# Altium schematic symbol library mamsense_button.SchLib: 46 symbols
Pins are listed as number, name and electrical type; pins without a type are passive.

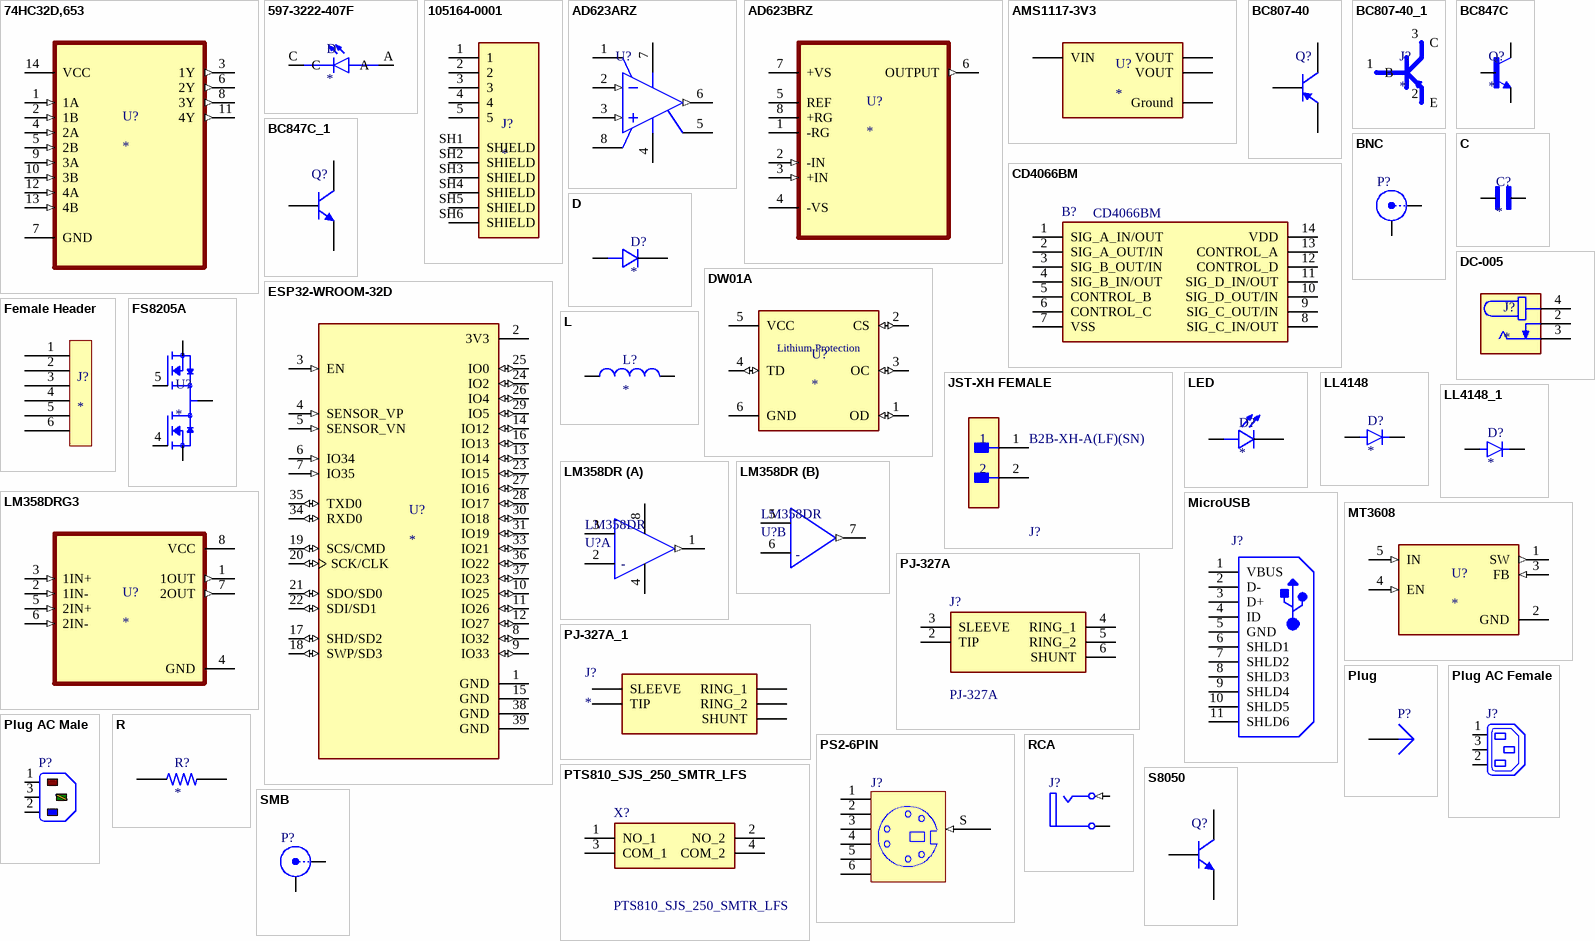
[diagram p0: symbols 74HC32D,653 to SMB]

## 74HC32D,653
designator U?
OR Gate IC 4 Channel 14-SO; MP: 74HC32D,653; MF: Nexperia USA; Price: None; SnapEDA_Link: https://www.snapeda.com/parts/74HC32D,653/Nexperia%20USA%20Inc./view-part/33189/?ref=snap; Package: SOIC-14 NXP Semiconductors; DigiKey-Purchase-URL: https://snapeda.com/shop?store=DigiKey&id=33189; Value: *; Mouser-Purchase-URL: https://snapeda.com/shop?store=Mouser&id=33189; Availability: Good
footprint SOIC127P600X175-14N
pins: 1 1A (in), 2 1B (in), 3 1Y (out), 4 2A (in), 5 2B (in), 6 2Y (out), 7 GND, 8 3Y (out), 9 3A (in), 10 3B (in), 11 4Y (out), 12 4A (in), 13 4B (in), 14 VCC (power)

## 597-3222-407F
designator D
Yellow LED Indication - Discrete 1.9V 0805 _2012 Metric_; MP: 597-3222-407F; MF: Dialight; Package: 0805 Dialight; Availability: Unavailable; SnapEDA_Link: https://www.snapeda.com/parts/597-3222-407F/Dialight/view-part/345662/?ref=snap; Price: None; Value: *
footprint LEDC2012X70N
pins: A, C

## 105164-0001
designator J?
Molex Micro B USB
footprint 105164-0001 (Molex Micro B USB)
pins: 1, 2, 3, 4, 5, SH1 SHIELD, SH2 SHIELD, SH3 SHIELD, SH4 SHIELD, SH5 SHIELD, SH6 SHIELD

## AD623ARZ
designator U?
Manufacturer: Analog Devices; EDA / CAD Models: DownloadfromAcceleratedDesigns; PCN Design/Specification: AD623PolymideThickness02/Oct/2013AD623PolymideThickness15/Oct/2013; Output Type: Rail-to-Rail; -3db Bandwidth: 800kHz; Voltage - Supply, Single/Dual (±): 2.7V~12V,±2.5V~6V; Current - Input Bias: 17nA; Amplifier Type: Instrumentation; Voltage - Input Offset: 25µV; Slew Rate: 0.3V/µs; Current - Supply: 375µA; Mfg Application Notes: Electrocardiogram(ECG)Solutions; Number of Circuits: 1; Product Training Modules: InstrumentationAmplifiersPerformanceCommonPhotodiodeOp-AmpCircuitProblemsandSolutionsIndirectCurrentFeedbackInstrumentationAmplifierApplicationsGuide; Manufacturer URL: http://www.analog.com/; Packaging: Tube; Mounting Type: SurfaceMount; Gain Bandwidth Product: -; Datasheet URL: https://datasheet.ciiva.com/20167/82-1224-20167284.pdf; Current - Output / Channel: -; Standard Package: 98; Supplier Device Package: 8-SOIC; Datasheet Version: Rev. D, 07/2008; Family: Linear-Amplifiers-Instrumentation,OPAmps,BufferAmps; Online Catalog: Instrumentation; Operating Temperature: -40degC~85degC; Category: IntegratedCircuits(ICs); Package / Case: 8-SOIC(0.154",3.90mmWidth); Series: -
footprint SOIC-8
pins: 1 -RG, 2 -IN (in), 3 +IN (in), 4 -VS (power), 5 REF (power), 6 OUTPUT (out), 7 +VS (power), 8 +RG

## AD623BRZ
designator U?
Instrumentation Amplifier 1 Circuit Rail-to-Rail 8-SOIC; MF: Analog Devices; MP: AD623BRZ; Package: SOIC-8 Analog Devices; Check_prices: https://www.snapeda.com/parts/AD623BRZ/Analog%20Devices%20Inc./view-part/9793/?ref=eda; Availability: Good; Value: *; Purchase-URL: https://pricing.snapeda.com/search/part/AD623BRZ/?ref=eda; Price: None; SnapEDA_Link: https://www.snapeda.com/parts/AD623BRZ/Analog%20Devices%20Inc./view-part/9793/?ref=snap
footprint SOIC127P599X175-8N
pins: 1 -RG, 2 -IN (in), 3 +IN (in), 4 -VS (power), 5 REF, 6 OUTPUT (out), 7 +VS (power), 8 +RG

## AMS1117-3V3
designator U?
footprint SOT223
pins: 1 Ground (power), 2 VOUT, 3 VIN (power), 4 VOUT

## BC807-40
designator Q?
Manufacturer: On Semiconductor; PartNumber: BC807-40LT1G; fT Min (MHz): 100; IC Continuous (A): -0.5; Packing: Tape and Reel; Polarity: PNP; Mounting Technology: Surface Mount; ComponentLink3URL: http://www.onsemi.cn/pub_link/Collateral/318-08.PDF; DatasheetVersion: Rev. 10; RoHS: TRUE; ComponentLink1URL: http://www.onsemi.com/; ComponentLink2URL: http://www.onsemi.com/pub_link/Collateral/BC807-16LT1-D.PDF; ComponentLink1Description: Manufacturer URL; ComponentLink3Description: Package Specification; PackageVersion: Rev. AP, 11/2009; PackageReference: SOT-23-3-318-08; PackageDescription: 3-Pin Small Outline Transistor, Body 2.92 x 1.3 mm, Pitch 0.95 mm; ComponentLink2Description: Datasheet
footprint SOT-23-3
pins: 1 B, 2 E, 3 C

## BC807-40_1
designator J?
Bipolar (BJT) Transistor PNP 45 V 800 mA 100MHz 310 mW Surface Mount SOT-23-3 (TO-236); MF: Diotec Semiconductor; MP: BC807-40; Value: *; Availability: In Stock; Price: None; Purchase-URL: https://pricing.snapeda.com/search/part/BC807-40/?ref=eda; Check_prices: https://www.snapeda.com/parts/BC807-40/Diotec/view-part/?ref=eda; SnapEDA_Link: https://www.snapeda.com/parts/BC807-40/Diotec/view-part/?ref=snap; Package: SOT-23-3 Diotec
footprint SOT23-3
pins: 1 B (io), 2 E (io), 3 C (io)

## BC847C
designator Q?
Bipolar (BJT) Transistor NPN 45 V 100 mA 300MHz 250 mW Surface Mount SOT-23-3 (TO-236); MF: Diotec Semiconductor; MP: BC847C; Price: None; SnapEDA_Link: https://www.snapeda.com/parts/BC847C/Diotec/view-part/?ref=snap; Purchase-URL: https://pricing.snapeda.com/search/part/BC847C/?ref=eda; Availability: In Stock; Package: SOT-23-3 Diotec; Check_prices: https://www.snapeda.com/parts/BC847C/Diotec/view-part/?ref=eda; Value: *
footprint TRANS_BC847C
pins: 1 B, 2 E, 3 C

## BC847C_1
designator Q?
PartNumber: BC847C; Manufacturer: Infineon; VCEO (max): 45Â V; VEBO (max): 6Â V; fT (typ): 250Â MHz; VCBO (max): 50Â V; ICM (max): 200Â mA; Green: TRUE; IC (max): 100Â mA; Polarity: NPN; Ptot (max): 330Â mW; ICBO (max): 15Â nA; Packing: Reel; ComponentLink3URL: http://www.infineon.com/dgdl/SOT23-Package_Overview.pdf?folderId=db3a30431936bc4b0119532290053c66&fileId=db3a30431936bc4b0119533468123c85; ComponentLink3Description: Package Specification; Mounting Technology: Surface Mount; PackageDescription: 3-Pin Small Outline Transistor Package, 1.3 x 2.9 mm Body, 0.95 mm Pitch; PackageReference: SOT23; ComponentLink2URL: http://www.infineon.com/dgdl/bc847series_bc848series_bc849series_bc850series.pdf?folderId=db3a304314dca389011541d30fa21656&fileId=db3a304314dca389011541d4630a1657; ComponentLink2Description: Datasheet; ComponentLink1Description: Manufacturer URL; ComponentLink1URL: http://www.infineon.com/; IBM (max): 200Â mA; PackageVersion: Apr-08
footprint SOT-23-3
pins: 1 B, 2 E, 3 C

## BNC
designator P?
BNC Elbow Connector; LatestRevisionDate: 17-Jul-2002; LatestRevisionNote: Re-released for DXP Platform.; Publisher: Altium Limited
footprint BNC_RA CON (Connector; BNC Elbow)
signal-integrity model Connector
pins: 1 X, 2 Y

## C
designator C?
footprint C0805
pins: 1, 2

## CD4066BM
designator B?
CD4066BMG4, Analogue Switch Quad SPST, 5, 9, 12, 15V, 14-Pin, SOIC; Manufacturer_Name: Texas Instruments; Geometry.Height: 1.75mm; Mouser Part Number: 595-CD4066BM; Mouser Price/Stock: https://www.mouser.co.uk/ProductDetail/Texas-Instruments/CD4066BM?qs=mTHRaKC2c7Pmip7uYTVQUg%3D%3D; Manufacturer_Part_Number: CD4066BM; Datasheet Link: http://www.ti.com/lit/ds/symlink/cd4066b.pdf
footprint SOIC127P600X175-14N
pins: 1 SIG_A_IN/OUT, 2 SIG_A_OUT/IN, 3 SIG_B_OUT/IN, 4 SIG_B_IN/OUT, 5 CONTROL_B, 6 CONTROL_C, 7 VSS, 8 SIG_C_IN/OUT, 9 SIG_C_OUT/IN, 10 SIG_D_OUT/IN, 11 SIG_D_IN/OUT, 12 CONTROL_D, 13 CONTROL_A, 14 VDD

## D
designator D?
footprint SOD-323
footprint DO-214AB
pins: A, C

## DC-005
designator J?
DC Jack; MP: DC-005; Availability: Unavailable; Value: *; Package: None; Price: None
footprint NINIGI_DC-005
pins: 2 4, 3 5, 4 2

## DW01A
designator U?
footprint SOT-23-6
pins: 1 OD (io), 2 CS (io), 3 OC (io), 4 TD (io), 5 VCC (power), 6 GND (power)
text: Lithium Protection

## ESP32-WROOM-32D
designator U?
footprint ESP32-WROOM-32D
pins: 1 GND (power), 2 3V3 (power), 3 EN (in), 4 SENSOR_VP (in), 5 SENSOR_VN (in), 6 IO34 (in), 7 IO35 (in), 8 IO32 (io), 9 IO33 (io), 10 IO25 (io), 11 IO26 (io), 12 IO27 (io), 13 IO14 (io), 14 IO12 (io), 15 GND (power), 16 IO13 (io), 17 SHD/SD2 (io), 18 SWP/SD3 (io), 19 SCS/CMD (io), 20 SCK/CLK (io), 21 SDO/SD0 (io), 22 SDI/SD1 (io), 23 IO15 (io), 24 IO2 (io), 25 IO0 (io), 26 IO4 (io), 27 IO16 (io), 28 IO17 (io), 29 IO5 (io), 30 IO18 (io), 31 IO19 (io), 33 IO21 (io), 34 RXD0 (io), 35 TXD0 (io), 36 IO22 (io), 37 IO23 (io), 38 GND (power), 39 GND (power)

## Female Header
designator J?
footprint Female Header
pins: 1, 2, 3, 4, 5, 6

## FS8205A
designator U?
footprint TSSOP-8
pins: 1 D12, 2 S1, 3 S1, 4 G1, 5 G2, 6 S2, 7 S2, 8 D12

## JST-XH FEMALE
designator J?, comment B2B-XH-A(LF)(SN)
CONN HEADER VERT 2POS 2.5MM; Current Rating: 3A; Voltage Rating: 250V; Number of Contacts: 2; Contact Resistance: 20mR; Wire/Cable Gauge: 22AWG; Insulation Resistance: 1GR; Connector Type: Male Pin; Packaging: Bulk; Contact Material: Brass; Lead Free: Lead Free; Orientation: Straight; Contact Plating: Tin; Max Current Rating: 3A; Termination: Solder; Fastening Type: Detent; Depth: 5.75mm; Housing Material: Polyamide; REACH SVHC: No SVHC; Series: XH; Voltage Rating (AC): 250V; Number of Positions: 2; Color: Natural; Contact Type: Male Pin; Max Voltage Rating (DC): 250V; Pitch: 2.5mm; Lead Pitch: 2.5mm; Mount: Through Hole; Max Operating Temperature: 85°C; Length: 7.4mm; Max Voltage Rating (AC): 250V; Min Operating Temperature: -25°C; Number of Rows: 1; Housing Color: White
footprint JST-XH 2 Pin
pins: 1, 2

## L
designator L?
footprint RH1207
pins: 1, 2

## LED
designator D?
footprint LED0603
pins: A, C

## LL4148
designator D?
Diode Small Signal Switching 100V 0.15A Automotive 2-Pin Mini-MELF T/R; MF: Diotec Semiconductor; MP: LL4148; Value: *; SnapEDA_Link: https://www.snapeda.com/parts/LL4148/Diotec/view-part/?ref=snap; Purchase-URL: https://pricing.snapeda.com/search/part/LL4148/?ref=eda; Availability: In Stock; Price: None; Package: MINIMELF-2 Diotec; Check_prices: https://www.snapeda.com/parts/LL4148/Diotec/view-part/?ref=eda
footprint DIO_LL4148
pins: A, C

## LL4148_1
designator D?
Diode Small Signal Switching 100V 0.15A Automotive 2-Pin Mini-MELF T/R; MF: Diotec Semiconductor; MP: LL4148; Value: *; SnapEDA_Link: https://www.snapeda.com/parts/LL4148/Diotec/view-part/?ref=snap; Purchase-URL: https://pricing.snapeda.com/search/part/LL4148/?ref=eda; Availability: In Stock; Price: None; Package: MINIMELF-2 Diotec; Check_prices: https://www.snapeda.com/parts/LL4148/Diotec/view-part/?ref=eda
footprint DIO_LL4148
pins: A, C

## LM358DR
designator U?
Output Current: 30mA; Min Dual Supply Voltage: 1.5V; Input Offset Voltage (Vos): 7mV; Power Supply Rejection Ratio (PSRR): 65dB; Unity Gain Bandwidth Product: 700kHz; Number of Channels: 2; Min Supply Voltage: 3V; Max Dual Supply Voltage: 16V; Dual Supply Voltage: 9V; Max Supply Voltage: 32V; Nominal Supply Current: 1.2mA; Slew Rate: 0.3V/µs; Input Bias Current: 250nA; Voltage Gain: 100dB; Operating Supply Current: 1mA; REACH SVHC: No SVHC; Package Quantity: 2500; Width: 3.91mm; Max Operating Temperature: 70°C; Min Operating Temperature: 0°C; Mount: Surface Mount; Length: 4.9mm; Radiation Hardening: No; Case/Package: SOIC; Lead Free: Lead Free; Number of Elements: 2; Packaging: Tape and Reel; Output Current per Channel: 30mA; Number of Circuits: 2; Bandwidth: 700kHz; Operating Supply Voltage: 16V; Gain Bandwidth Product: 700kHz; Number of Pins: 8; Number of Amplifiers: 2; Height: 1.58mm; Common Mode Rejection Ratio: 65dB; Contact Plating: Gold
footprint SOIC-8
part A pins: 1 1OUT (out), 2 IN1- (hiz), 3 IN1+ (hiz), 4 V- (power), 8 V+ (power)
part B pins: 5 IN2+ (hiz), 6 IN2- (hiz), 7 2OUT (out)
part A text: -
part B text: -

## LM358DRG3
designator U?
Dual standard operational amplifier 8-SOIC 0 to 70; MF: Texas Instruments; MP: LM358DRG3; Check_prices: https://www.snapeda.com/parts/LM358DRG3/Texas%20Instruments/view-part/793077/?ref=eda; Value: *; Price: None; Availability: Good; SnapEDA_Link: https://www.snapeda.com/parts/LM358DRG3/Texas%20Instruments/view-part/793077/?ref=snap; Package: SOIC-8 Texas Instruments; Purchase-URL: https://pricing.snapeda.com/search/part/LM358DRG3/?ref=eda
footprint SOIC-8
footprint SOIC-8
pins: 1 1OUT (out), 2 1IN- (in), 3 1IN+ (in), 4 GND (power), 5 2IN+ (in), 6 2IN- (in), 7 2OUT (out), 8 VCC (power)

## MicroUSB
designator J?
Manufacturer: TE Connectivity; Body Orientation: RightAngle; Number of Ports: 1Port; Number of Contacts: 5POS; Gender: RCP; Voltage Rating Max: 30VAC; Product Depth (mm): 5.6mm; Pitch (mm): 0.65mm; Current Rating (Max): 1/ContactA; Product Length (mm): 8mm; Product Height (mm): 3mm; Operating Temperature Max Deg. C: 85C; Datasheet URL: http://www.mouser.com/ds/2/418/NG_CD_1981568_E2-621296.pdf; Termination Method: Solder; Number of Terminals: 5; Operating Temp Range: -55Cto85C; Mounting Style: SurfaceMount; Manufacturer URL: http://www.te.com/; Contact Material: CopperAlloy; Packaging: TapeandReel; Datasheet Version: Rev. E2, 08/2015; Operating Temperature Min Deg. C: -55C; Housing Material: Thermoplastic; Type: MicroUSB; Contact Plating: GoldOverNickel
footprint MicroUSB (SMD, 5-Leads, Body 8x5.9mm, Pitch 0.65mm)
pins: 1 VBUS, 2 D-, 3 D+, 4 ID, 5 GND, 6 SHLD1, 7 SHLD2, 8 SHLD3, 9 SHLD4, 10 SHLD5, 11 SHLD6

## MT3608
designator U?
footprint MT3608
footprint SOT-23-6
pins: 1 SW (out), 2 GND (power), 3 FB (in), 4 EN (in), 5 IN (in)

## PJ-327A
designator J?
3.5 Phone Jack.; Manufacturer_Name: XKB Connectivity; Geometry.Height: 4.75mm; Manufacturer_Part_Number: PJ-327A; Mouser Part Number: *; Mouser Price/Stock: *; Arrow Part Number: *; Arrow Price/Stock: *; Datasheet Link: https://datasheet.lcsc.com/szlcsc/1903151105_XKB-Enterprise-PJ-327A0-SMT_C381135.pdf
footprint PJ327A
pins: 2 TIP, 3 SLEEVE, 4 RING_1, 5 RING_2, 6 SHUNT

## PJ-327A_1
designator J?
Manufacturer_Name: XKB; Manufacturer_Part_Number: PJ-327A; Datasheet Link: https://datasheet.lcsc.com/szlcsc/1903151105_XKB-Enterprise-PJ-327A0-SMT_C381135.pdf; Height: 4.75mm
footprint PJ327A
pins: 2 TIP, 3 SLEEVE, 4 RING_1, 5 RING_2, 6 SHUNT

## Plug
designator P?
Plug; LatestRevisionDate: 17-Jul-2002; LatestRevisionNote: Re-released for DXP Platform.; Publisher: Altium Limited
footprint PIN1 (Connector; Plug)
signal-integrity model Connector
pins: 1

## Plug AC Female
designator J?
IEC Mains Power Outlet, EN60 320-2-2 F Class I, PC Flange Rear Mount, Chassis Socket; PackageDocument: ver.80, 15-Sep-2003; MaximumRating: 10A, 250V a.c. (UL & CSA 15A, 250V a.c.); MountingFixtures: Not drawn on schematic symbol.; PCB_Layout: Complies with manufacturer's recommendation.; DrillSize: Corresponds to nominal value.; Published: 15-Jul-2004; LatestRevisionDate: 15-Jul-2004; LatestRevisionNote: Component Replaced & renamed from "Phonejack".; DatasheetDocument: ver.80, 15-Sep-2003; PackageReference: PX0675/PC; Publisher: Altium Limited; Terminations: P.C. Spills; ComponentLink1Description: Manufacturer Link; ComponentLink1URL: http://www.bulgin.co.uk/
footprint IEC7-2H3 (Mains Power Outlet, IEC60 320-2-2 F, PC Flange Rear Mount)
pins: 1 L (power) "Live (Active)", 2 N (power) "Neutral", 3 E (power) "Earth (Ground)"

## Plug AC Male
designator P?
IEC Mains Power Inlet, EN60 320-1 C14 Class I Cold Condition, PC Flange Rear Mount, Chassis Plug; PackageDocument: ver.80, 15-Sep-2003; MaximumRating: 10A, 250V a.c. (UL & CSA 15A, 250V a.c.); MountingFixtures: Not drawn on schematic symbol.; PCB_Layout: Complies with manufacturer's recommendation.; DrillSize: Corresponds to nominal value.; Note: IEC Color Scheme employed for L, N and E.; Published: 15-Jul-2004; LatestRevisionDate: 15-Jul-2004; LatestRevisionNote: Component Replaced.; DatasheetDocument: ver.80, 15-Sep-2003; PackageReference: PX0580/PC; Publisher: Altium Limited; Terminations: P.C. Spills; ComponentLink1Description: Manufacturer Link; ComponentLink1URL: http://www.bulgin.co.uk/
footprint IEC9.14-2H3 (Mains Power Inlet, IEC60 320-1 C14, PC Flange Rear Mount)
pins: 1 L (power) "Live (Active)", 2 N (power) "Neutral", 3 E (power) "Earth (Ground)"

## PS2-6PIN
designator J?
6 Pin Through Hole PS2 Socket (Kycon P/N); Published: 17-Dec-2003; Publisher: Altium Limited; ComponentLink1Description: Manufacturer Link; ComponentLink1URL: http://www.oupiin.com/prodindx.html#Headers
footprint PS2-6PIN (PS2 Socket, 6 Pin, Through Hole)
signal-integrity model Connector
pins: 1, 2, 3, 4, 5, 6, S (in)

## PTS810_SJS_250_SMTR_LFS
designator X?
TACT; Manufacturer_Name: C & K COMPONENTS; Manufacturer_Part_Number: PTS810 SJS 250 SMTR LFS; Geometry.Height: 2.7mm; Mouser Part Number: 611-PTS810SJS250SMTR; Mouser Price/Stock: https://www.mouser.com/Search/Refine.aspx?Keyword=611-PTS810SJS250SMTR; Arrow Part Number: PTS810 SJS 250 SMTR LFS; Arrow Price/Stock: https://www.arrow.com/en/products/pts810sjs250smtrlfs/ck?region=nac; Datasheet Link: https://componentsearchengine.com/Datasheets/1/PTS810 SJS 250 SMTR LFS.pdf
footprint PTS810SJS250SMTRLFS
pins: 1 NO_1, 2 NO_2, 3 COM_1, 4 COM_2

## R
designator R?
footprint R0805
pins: 1, 2

## RCA
designator J?
RCA Phono Jack, Right Angle, Thru-Hole, Snap-In; PCB_Layout: Complies with manufacturer's recommendation.; DrillAndSlotSize: Corresponds to nominal value.; Published: 15-Jul-2004; LatestRevisionDate: 15-Jul-2004; LatestRevisionNote: Component Replaced.; DatasheetDocument: 7-Jul-2000; PackageDocument: 7-Jul-2000; PackageReference: 161; Publisher: Altium Limited; ComponentLink1Description: Manufacturer Link; ComponentLink1URL: http://www.mouser.com/kobiconn/
footprint RCA/4.5-H2 (Two Conductor Jack (RCA), Right Angle, Thru-Hole, Body 10 x 10 x 13 mm (WxTxH))
signal-integrity model RCA
pins: 1A Ground (power) "Outer Shield (Sleeve)", 2B Signal (in) "Center Pin (Plug Tip)"

## S8050
designator Q?
PartNumber: BC847C; Manufacturer: Infineon; VCEO (max): 45Â V; VEBO (max): 6Â V; fT (typ): 250Â MHz; VCBO (max): 50Â V; ICM (max): 200Â mA; Green: TRUE; IC (max): 100Â mA; Polarity: NPN; Ptot (max): 330Â mW; ICBO (max): 15Â nA; Packing: Reel; ComponentLink3URL: http://www.infineon.com/dgdl/SOT23-Package_Overview.pdf?folderId=db3a30431936bc4b0119532290053c66&fileId=db3a30431936bc4b0119533468123c85; ComponentLink3Description: Package Specification; Mounting Technology: Surface Mount; PackageDescription: 3-Pin Small Outline Transistor Package, 1.3 x 2.9 mm Body, 0.95 mm Pitch; PackageReference: SOT23; ComponentLink2URL: http://www.infineon.com/dgdl/bc847series_bc848series_bc849series_bc850series.pdf?folderId=db3a304314dca389011541d30fa21656&fileId=db3a304314dca389011541d4630a1657; ComponentLink2Description: Datasheet; ComponentLink1Description: Manufacturer URL; ComponentLink1URL: http://www.infineon.com/; IBM (max): 200Â mA; PackageVersion: Apr-08
footprint SOT-23-3
pins: 1 B, 2 E, 3 C

## SMB
designator P?
SMB Straight Connector; LatestRevisionDate: 17-Jul-2002; LatestRevisionNote: Re-released for DXP Platform.; Publisher: Altium Limited
footprint SMB_V-RJ45 (Connector; SMB Straight)
signal-integrity model Connector
pins: 1 X, 2 Y

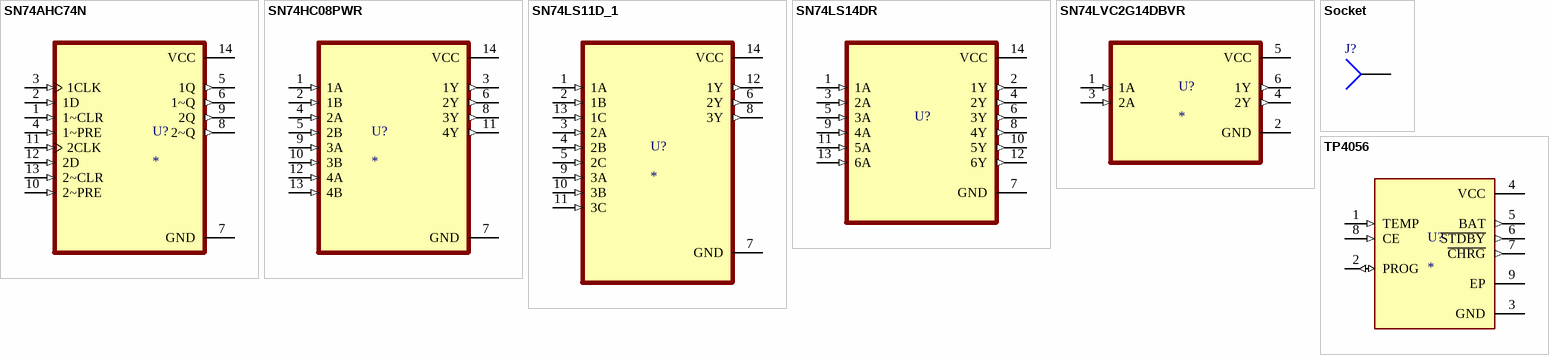
[diagram p1: symbols SN74AHC74N to TP4056]

## SN74AHC74N
designator U?
2 CHANNEL D TYPE FLIP FLOP
footprint SOP65P640X120-14N
pins: 1 1~CLR (in), 2 1D (in), 3 1CLK (in), 4 1~PRE (in), 5 1Q (out), 6 1~Q (out), 7 GND (power), 8 2~Q (out), 9 2Q (out), 10 2~PRE (in), 11 2CLK (in), 12 2D (in), 13 2~CLR (in), 14 VCC (power)

## SN74HC08PWR
designator U?
4 CHANNEL 2INP AND GATE
footprint SOP65P640X120-14N
pins: 1 1A (in), 2 1B (in), 3 1Y (out), 4 2A (in), 5 2B (in), 6 2Y (out), 7 GND (power), 8 3Y (out), 9 3A (in), 10 3B (in), 11 4Y (out), 12 4A (in), 13 4B (in), 14 VCC (power)

## SN74LS11D_1
designator U?
3 CHANNEL 3INP AND GATE; MP: SN74LS11D; Package: None; Price: None; Value: *; Availability: Unavailable
footprint SOIC127P600X175-14N - duplicate
pins: 1 1A (in), 2 1B (in), 3 2A (in), 4 2B (in), 5 2C (in), 6 2Y (out), 7 GND (power), 8 3Y (out), 9 3A (in), 10 3B (in), 11 3C (in), 12 1Y (out), 13 1C (in), 14 VCC (power)

## SN74LS14DR
designator U?
6 CHANNEL INVERTER; MP: SN74LS14DR; Package: None; Price: None; Value: *; Availability: Unavailable
footprint SOIC127P600X175-14N - duplicate
pins: 1 1A (in), 2 1Y (out), 3 2A (in), 4 2Y (out), 5 3A (in), 6 3Y (out), 7 GND (power), 8 4Y (out), 9 4A (in), 10 5Y (out), 11 5A (in), 12 6Y (out), 13 6A (in), 14 VCC (power)

## SN74LVC2G14DBVR
designator U?
Dual Schmitt-Trigger Inverter 6-SOT-23 -40 to 125; MF: Texas Instruments; MP: SN74LVC2G14DBVR; Value: *; SnapEDA_Link: https://www.snapeda.com/parts/SN74LVC2G14DBVR/Texas%20Instruments/view-part/77482/?ref=snap; Texas_Instruments-Purchase-URL: https://snapeda.com/shop?store=Texas+Instruments&id=77482; Mouser-Purchase-URL: https://snapeda.com/shop?store=Mouser&id=77482; Price: None; Availability: Unavailable; Package: SOT-23-6 Texas Instruments; DigiKey-Purchase-URL: https://snapeda.com/shop?store=DigiKey&id=77482
footprint SOT95P280X145-6N
pins: 1 1A (in), 2 GND (power), 3 2A (in), 4 2Y (out), 5 VCC (power), 6 1Y (out)

## Socket
designator J?
Socket; LatestRevisionDate: 17-Jul-2002; LatestRevisionNote: Re-released for DXP Platform.; Publisher: Altium Limited
footprint PIN1 (Connector; Socket)
signal-integrity model Connector
pins: 1

## TP4056
designator U?
footprint SOP-8
pins: 1 TEMP (in), 2 PROG (io), 3 GND (power), 4 VCC (power), 5 BAT (out), 6 ~{STDBY} (out), 7 ~{CHRG} (out), 8 CE (in), 9 EP